# EAGLE library part 7S_BMS (library custom)
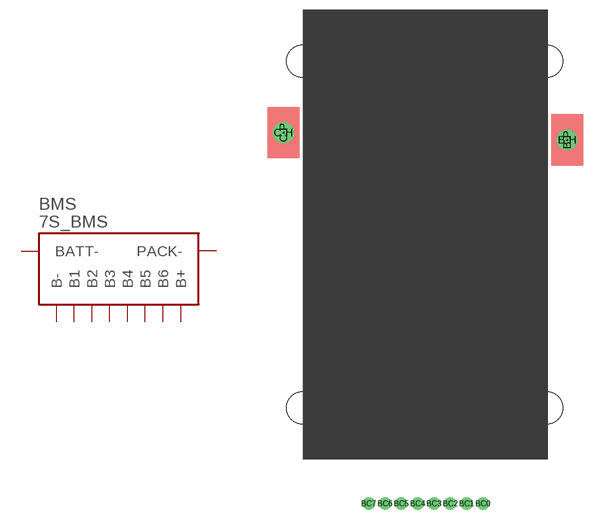
[diagram p141: symbol with the pads of 7S_BMS_NARROW; footprint 7S_BMS_NARROW]

Designator prefix BMS

## 7S_BMS  [7S_BMS_NARROW]
B-H  BATT-
B-P  BATT-
BC0  B-
BC1  B1
BC2  B2
BC3  B3
BC4  B4
BC5  B5
BC6  B6
BC7  B+
C-H  PACK-
C-P  PACK-

## Footprint 7S_BMS_NARROW (pad centres in mm)
drill 2.2: B-H 39.15,47.72; C-H -5,48.855
smd 5 x 8: B-P 39.15,47.72; C-P -5,48.855
drill 1.3: BC0 26.035,-8.89; BC1 23.495,-8.89; BC2 20.955,-8.89; BC3 18.415,-8.89; BC4 15.875,-8.89; BC5 13.335,-8.89; BC6 10.795,-8.89; BC7 8.255,-8.89
hole 5 at -2,60
hole 5 at 36,60
hole 5 at -2,6
hole 5 at 36,6